# EAGLE library part 0480371000 (library connectors-molex)
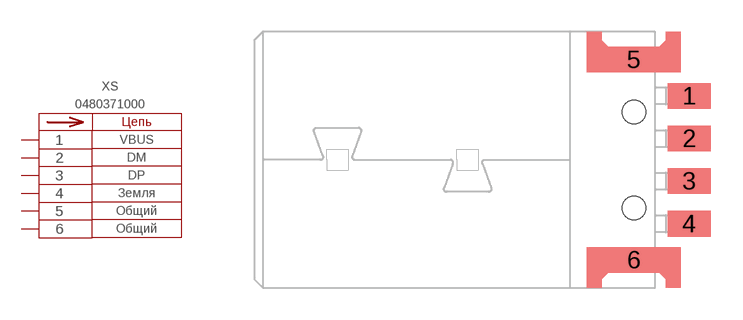
[diagram p12: symbol with the pads of 0480371000; footprint 0480371000]

Designator prefix XS

## 0480371000  [0480371000]
1  1  pas
2  2  pas
3  3  pas
4  4  pas
5  5  pas
6  6  pas

## Footprint 0480371000 (pad centres in mm)
smd 2 x 1.2: 1 11,3; 2 11,1; 3 11,-1; 4 11,-3; 5 8.4,4.7; 6 8.4,-4.7
hole 1.1 at 8.4,2.25
hole 1.1 at 8.4,-2.25